# EAGLE library part MICROUSB-ZX62-B-5PA (library tvikia)
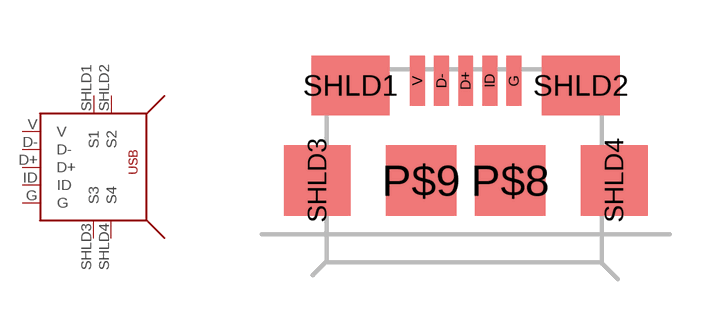
[diagram p1: symbol with the pads of MICROUSB-ZX62-B-5PA; footprint MICROUSB-ZX62-B-5PA]

Designator prefix -

## MICROUSB-ZX62-B-5PA  [MICROUSB-ZX62-B-5PA]
D+  D+
D-  D-
G  G
ID  ID
SHLD1  S1  pwr
SHLD2  S2  pwr
SHLD3  S3  pwr
SHLD4  S4  pwr
V  V

## Footprint MICROUSB-ZX62-B-5PA (pad centres in mm)
smd 0.4 x 1.35: D+ 0,4.13; D- -0.65,4.13; G 1.3,4.13; ID 0.65,4.13; V -1.3,4.13
smd 1.9 x 1.9: P$8 1.2,1.45; P$9 -1.2,1.45
smd 2.1 x 1.6: SHLD1 -3.1,4; SHLD2 3.1,4
smd 1.8 x 1.9: SHLD3 -4,1.45; SHLD4 4,1.45